# EAGLE library part TMP117 (library pimoroni-ics)
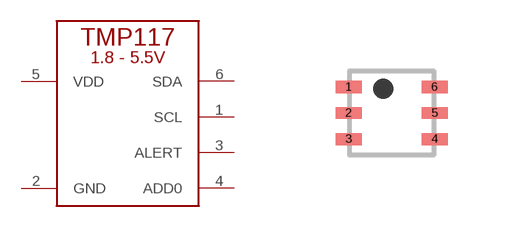
[diagram p121: symbol with the pads of WSON-6-2.1MM-NO-PAD; footprint WSON-6-2.1MM-NO-PAD]

Designator prefix U

## TMP117  [WSON-6-2.1MM-NO-PAD]
1  SCL
2  GND
3  ALERT
4  ADD0
5  VDD
6  SDA

## Footprint WSON-6-2.1MM-NO-PAD (pad centres in mm)
smd 0.65 x 0.3: 1 -1.075,0.65; 2 -1.075,0; 3 -1.075,-0.65; 4 1.075,-0.65; 5 1.075,0; 6 1.075,0.65